# EAGLE library part PJT138K_R1_00001 (library PJT138K_R1_00001)
MOSFET 50V N-Channel Enhancement Mode MOSFETESD Protected Source: Datasheet <https://www.mouser.de/ProductDetail/Panjit/PJT138K_R1_00001?qs=sPbYRqrBIVkfxOi4sYJhZg==>
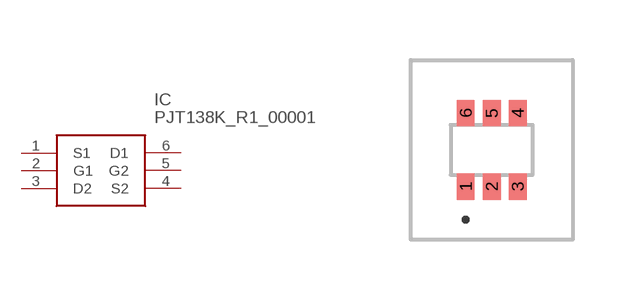
[diagram p0: symbol with the pads of PJT138K_R1_00001; footprint PJT138K_R1_00001]

Designator prefix IC

## PJT138K_R1_00001 (Description: MOSFET 50V N-Channel Enhancement Mode MOSFETESD Protected; Height: 1.1mm; Manufacturer_Name: PANJIT; Manufacturer_Part_Number: PJT138K_R1_00001; Mouser_Part_Number: 241-PJT138K_R1_00001; Mouser_Price-Stock: https://www.mouser.co.uk/ProductDetail/Panjit/PJT138K_R1_00001?qs=sPbYRqrBIVkfxOi4sYJhZg%3D%3D)  [PJT138K_R1_00001]
1  S1
2  G1
3  D2
4  S2
5  G2
6  D1

## Footprint PJT138K_R1_00001 (pad centres in mm)
PJT138K_R1_00001-2
smd 0.45 x 0.66: 1 -0.65,-0.92; 2 0,-0.92; 3 0.65,-0.92; 4 0.65,0.92; 5 0,0.92; 6 -0.65,0.92